# EAGLE library part NUCLEO-F401RE (library NUCLEO-F401RE)
STM32 Nucleo-64 development board with STM32F401RET6 MCU, supports Arduino and ST morpho connectivity Check prices <https://pricing.snapeda.com/parts/NUCLEO-F401RE/STMicroelectronics/view-part?ref=eda>
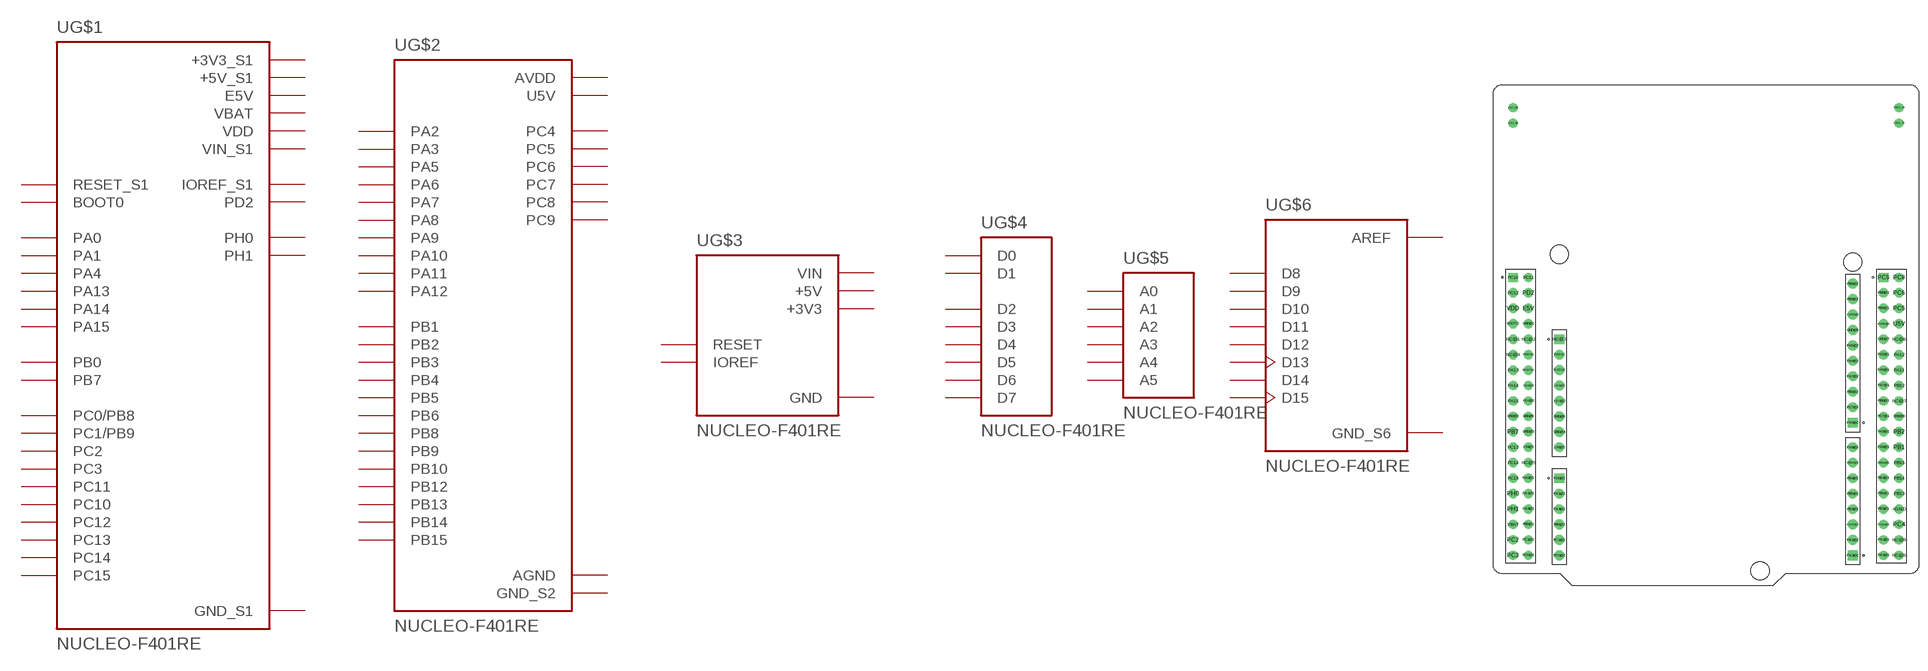
[diagram p0: symbol with the pads of ST_NUCLEO-F401RE; footprint ST_NUCLEO-F401RE]

Designator prefix U; gates G$1=NUCLEO-F401RE_IO-1 G$2=NUCLEO-F401RE_IO-2 G$3=NUCLEO-F401RE_POWER G$4=NUCLEO-F401RE_DIGITAL-2 G$5=NUCLEO-F401RE_ANALOG G$6=NUCLEO-F401RE_DIGITAL-1

## NUCLEO-F401RE (AVAILABILITY: In Stock; DESCRIPTION: STM32F401RE, mbed-Enabled Development Nucleo-64 STM32F4 ARM® Cortex®-M4 MCU 32-Bit Embedded Evaluation Board; MF: STMicroelectronics; MP: NUCLEO-F401RE; PACKAGE: None; PRICE: None; PURCHASE-URL: https://pricing.snapeda.com/search/part/NUCLEO-F401RE/?ref=eda)  [ST_NUCLEO-F401RE]
+3V3@1  G$1:+3V3_S1  pwr
+3V3@2  G$3:+3V3  pwr
+5V@1  G$1:+5V_S1  pwr
+5V@2  G$3:+5V  pwr
AGND  G$2:AGND  pwr
AVDD@1  G$2:AVDD  pwr
AVDD@2  G$6:AREF  pwr
BOOTO  G$1:BOOT0
E5V  G$1:E5V  pwr
GND@1  G$1:GND_S1  pwr
GND@2  G$1:GND_S1  pwr
GND@3  G$1:GND_S1  pwr
GND@4  G$3:GND  pwr
GND@5  G$1:GND_S1  pwr
GND@6  G$3:GND  pwr
GND@7  G$2:GND_S2  pwr
GND@8  G$2:GND_S2  pwr
GND@9  G$6:GND_S6  pwr
IOREF@1  G$1:IOREF_S1
IOREF@2  G$3:IOREF
PA0@1  G$1:PA0
PA0@2  G$5:A0  in
PA1@1  G$1:PA1
PA1@2  G$5:A1  in
PA2@1  G$2:PA2
PA2@2  G$4:D1  out
PA3@1  G$2:PA3
PA3@2  G$4:D0  in
PA4@1  G$1:PA4
PA4@2  G$5:A2  in
PA5@1  G$2:PA5
PA5@2  G$6:D13
PA6@1  G$2:PA6
PA6@2  G$6:D12
PA7@1  G$2:PA7
PA7@2  G$6:D11
PA8@1  G$2:PA8
PA8@2  G$4:D7
PA9@1  G$2:PA9
PA9@2  G$6:D8
PA10@1  G$2:PA10
PA10@2  G$4:D2
PA11  G$2:PA11
PA12  G$2:PA12
PA13  G$1:PA13
PA14  G$1:PA14
PA15  G$1:PA15
PB0@1  G$1:PB0
PB0@2  G$5:A3  in
PB1  G$2:PB1
PB2  G$2:PB2
PB3@1  G$2:PB3
PB3@2  G$4:D3
PB4@1  G$2:PB4
PB4@2  G$4:D5
PB5@1  G$2:PB5
PB5@2  G$4:D4
PB6@1  G$2:PB6
PB6@2  G$6:D10
PB7  G$1:PB7
PB8@1  G$2:PB8
PB8@2  G$6:D15
PB9@1  G$2:PB9
PB9@2  G$6:D14
PB10@1  G$2:PB10
PB10@2  G$4:D6
PB12  G$2:PB12
PB13  G$2:PB13
PB14  G$2:PB14
PB15  G$2:PB15
PC0@1  G$1:PC0/PB8
PC0@2  G$5:A5  in
PC1@1  G$1:PC1/PB9
PC1@2  G$5:A4  in
PC2  G$1:PC2
PC3  G$1:PC3
PC4  G$2:PC4
PC5  G$2:PC5
PC6  G$2:PC6
PC7@1  G$2:PC7
PC7@2  G$6:D9
PC8  G$2:PC8
PC9  G$2:PC9
PC10  G$1:PC10
PC11  G$1:PC11
PC12  G$1:PC12
PC13  G$1:PC13
PC14  G$1:PC14
PC15  G$1:PC15
PD2  G$1:PD2
PH0  G$1:PH0
PH1  G$1:PH1
RESET@1  G$1:RESET_S1
RESET@2  G$3:RESET
U5V  G$2:U5V  pwr
VBAT  G$1:VBAT  pwr
VDD  G$1:VDD  pwr
VIN@1  G$1:VIN_S1  pwr
VIN@2  G$3:VIN  pwr

## Footprint ST_NUCLEO-F401RE (pad centres in mm)
drill 1.02: +3V3@1 -29.21,-8.27; +5V@1 -29.21,-10.81; AGND 31.75,-28.59; AVDD@1 29.21,1.89; BOOTO -31.75,1.89; CN7_39 -31.75,37.45; CN7_40 -31.75,34.91; CN10_39 31.75,37.45; CN10_40 31.75,34.91; E5V -29.21,4.43; GND@1 -29.21,1.89; GND@2 -31.75,-13.35; GND@3 -29.21,-15.89; GND@5 -29.21,-13.35; GND@7 29.21,-0.65; GND@8 31.75,-13.35; IOREF@1 -29.21,-3.19; NC@1 -31.75,-0.65; NC@2 -29.21,-0.65; NC@4 -31.75,-3.19; NC@5 -29.21,-20.97; NC@6 31.75,-0.65; NC@7 31.75,-10.81; NC@8 31.75,-33.67; NC@9 31.75,-36.21; PA0@1 -29.21,-23.51; PA1@1 -29.21,-26.05; PA2@1 29.21,-33.67; PA3@1 29.21,-36.21; PA4@1 -29.21,-28.59; PA5@1 29.21,-3.19; PA6@1 29.21,-5.73; PA7@1 29.21,-8.27; PA8@1 29.21,-18.43; PA9@1 29.21,-15.89; PA10@1 29.21,-31.13; PA11 31.75,-5.73; PA12 31.75,-3.19; PA13 -31.75,-5.73; PA14 -31.75,-8.27; PA15 -31.75,-10.81; PB0@1 -29.21,-31.13; PB1 31.75,-18.43; PB2 31.75,-15.89; PB3@1 29.21,-28.59; PB4@1 29.21,-23.51; PB5@1 29.21,-26.05; PB6@1 29.21,-10.81; PB7 -31.75,-15.89; PB8@1 29.21,6.97; PB9@1 29.21,4.43; PB10@1 29.21,-20.97; PB12 31.75,-8.27; PB13 31.75,-26.05; PB14 31.75,-23.51; PB15 31.75,-20.97; PC0@1 -29.21,-36.21; PC1@1 -29.21,-33.67; PC2 -31.75,-33.67; PC3 -31.75,-36.21; PC4 31.75,-31.13; PC5 31.75,4.43; PC6 31.75,6.97; PC7@1 29.21,-13.35; PC8 31.75,9.51; PC11 -29.21,9.51; PC12 -31.75,6.97; PC13 -31.75,-18.43; PC14 -31.75,-20.97; PC15 -31.75,-23.51; PD2 -29.21,6.97; PH0 -31.75,-26.05; PH1 -31.75,-28.59; RESET@1 -29.21,-5.73; U5V 31.75,1.89; VBAT -31.75,-31.13; VDD -31.75,4.43; VIN@1 -29.21,-18.43
drill 1.07: +3V3@2 -24.13,-8.27; +5V@2 -24.13,-10.81; AVDD@2 24.13,3.41; GND@4 -24.13,-15.89; GND@6 -24.13,-13.35; GND@9 24.13,0.87; IOREF@2 -24.13,-3.19; PA1@2 -24.13,-26.05; PA2@2 24.13,-33.67; PA4@2 -24.13,-28.59; PA5@2 24.13,-1.67; PA6@2 24.13,-4.21; PA7@2 24.13,-6.75; PA8@2 24.13,-18.43; PA10@2 24.13,-31.13; PB0@2 -24.13,-31.13; PB3@2 24.13,-28.59; PB4@2 24.13,-23.51; PB5@2 24.13,-26.05; PB6@2 24.13,-9.29; PB8@2 24.13,8.49; PB9@2 24.13,5.95; PB10@2 24.13,-20.97; PC0@2 -24.13,-36.21; PC1@2 -24.13,-33.67; PC7@2 24.13,-11.83; RESET@2 -24.13,-5.73; VIN@2 -24.13,-18.43
drill 1.07 square: NC@3 -24.13,-0.65; PA0@2 -24.13,-23.51; PA3@2 24.13,-36.21; PA9@2 24.13,-14.37
drill 1.02 square: PC9 29.21,9.51; PC10 -31.75,9.51
hole 3 at 8.89,-38.75
hole 3 at 24.13,12.05
hole 3 at -24.13,13.32